# Altium integrated library Capacitor - Tantalum Polymer.IntLib: 74 symbols
Pins are listed as number, name and electrical type; pins without a type are passive.

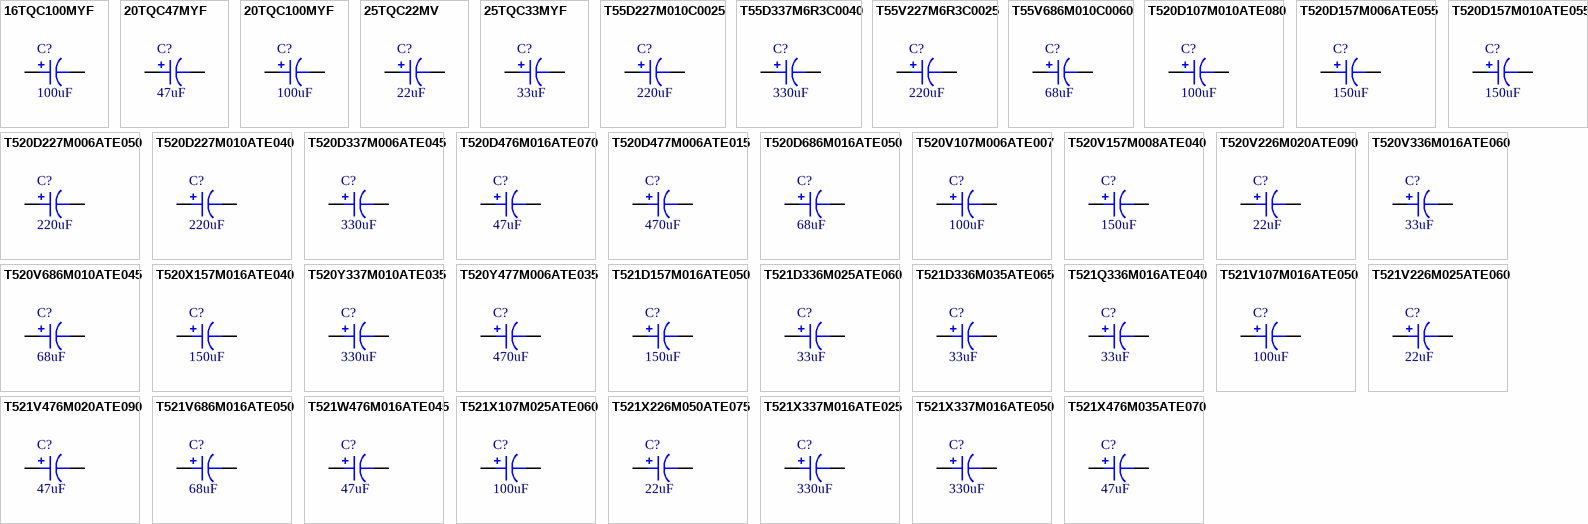
[diagram p0: symbols 16TQC100MYF to T521X476M035ATE070]

## 16TQC100MYF
designator C?, comment 100uF
CAP TANT POLY 100UF 16V 2917; Part Number: 16TQC100MYF; Manufacturer: Panasonic Electronic Components; TemperatureRange: -55C ~ 105C; Tolerance: 20%; Type: General Purpose; Value: 100uF; PartId: 7008; Supplier 1: Digi-Key; Supplier Part Number 1: P16237TR-ND; ComponentLink1Description: Datasheet; ComponentLink1URL: http://industrial.panasonic.com/www-cgi/jvcr13pz.cgi?E+CI+4+AAA8014+16TQC100MYF+8+WW; ComponentLink2Description: Digi-Key listing; ComponentLink2URL: http://digikey.com/product-detail/en/16TQC100MYF/P16237TR-ND/4146609; Voltage: 16V; Price: 1.9565; Device Package: 2917 (7343 Metric)
footprint CAP POL 2917/7343
pins: 1, 2

## 20TQC47MYF
designator C?, comment 47uF
CAP TANT POLY 47UF 20V 2917; Part Number: 20TQC47MYF; Manufacturer: Panasonic Electronic Components; TemperatureRange: -55C ~ 105C; Tolerance: 20%; Type: General Purpose; Value: 47uF; PartId: 7009; Supplier 1: Digi-Key; Supplier Part Number 1: P16249TR-ND; ComponentLink1Description: Datasheet; ComponentLink1URL: http://industrial.panasonic.com/www-cgi/jvcr13pz.cgi?E+CI+4+AAA8014+20TQC47MYF+8+WW; ComponentLink2Description: Digi-Key listing; ComponentLink2URL: http://digikey.com/product-detail/en/20TQC47MYF/P16249TR-ND/4146621; Voltage: 20V; Price: 2.0624; Device Package: 2917 (7343 Metric)
footprint CAP POL 2917/7343
pins: 1, 2

## 20TQC100MYF
designator C?, comment 100uF
CAP TANT POLY 100UF 20V 2917; Part Number: 20TQC100MYF; Manufacturer: Panasonic Electronic Components; TemperatureRange: -55C ~ 105C; Tolerance: 20%; Type: General Purpose; Value: 100uF; PartId: 7006; Supplier 1: Digi-Key; Supplier Part Number 1: P16503TR-ND; ComponentLink1Description: Datasheet; ComponentLink1URL: http://industrial.panasonic.com/www-cgi/jvcr13pz.cgi?E+CI+4+AAA8014+20TQC100MYF+8+WW; ComponentLink2Description: Digi-Key listing; ComponentLink2URL: http://digikey.com/product-detail/en/20TQC100MYF/P16503TR-ND/4204835; Voltage: 20V; Price: 1.9047; Device Package: 2917 (7343 Metric)
footprint CAP POL 2917/7343
pins: 1, 2

## 25TQC22MV
designator C?, comment 22uF
CAP TANT POLY 22UF 25V 2917; Part Number: 25TQC22MV; Manufacturer: Panasonic Electronic Components; TemperatureRange: -55C ~ 105C; Tolerance: 20%; Type: General Purpose; Value: 22uF; PartId: 7004; Supplier 1: Digi-Key; Supplier Part Number 1: P16517TR-ND; ComponentLink1Description: Datasheet; ComponentLink1URL: http://industrial.panasonic.com/www-cgi/jvcr13pz.cgi?E+CI+4+AAA8014+25TQC22MV+8+WW; ComponentLink2Description: Digi-Key listing; ComponentLink2URL: http://digikey.com/product-detail/en/25TQC22MV/P16517TR-ND/4204849; Voltage: 25V; Price: 1.2249; Device Package: 2917 (7343 Metric)
footprint CAP POL 2917/7343
pins: 1, 2

## 25TQC33MYF
designator C?, comment 33uF
CAP TANT POLY 33UF 25V 2917; Part Number: 25TQC33MYF; Manufacturer: Panasonic Electronic Components; TemperatureRange: -55C ~ 105C; Tolerance: 20%; Type: General Purpose; Value: 33uF; PartId: 7005; Supplier 1: Digi-Key; Supplier Part Number 1: P16226TR-ND; ComponentLink1Description: Datasheet; ComponentLink1URL: http://industrial.panasonic.com/www-cgi/jvcr13pz.cgi?E+CI+4+AAA8014+25TQC33MYF+8+WW; ComponentLink2Description: Digi-Key listing; ComponentLink2URL: http://digikey.com/product-detail/en/25TQC33MYF/P16226TR-ND/4146598; Voltage: 25V; Price: 1.3066; Device Package: 2917 (7343 Metric)
footprint CAP POL 2917/7343
pins: 1, 2

## T55D227M010C0025
designator C?, comment 220uF
CAP TANT POLY 220UF 10V SMD; Part Number: T55D227M010C0025; Manufacturer: Vishay Sprague; TemperatureRange: -55C ~ 105C; Tolerance: 20%; Type: General Purpose; Value: 220uF; PartId: 7045; Supplier 1: Digi-Key; Supplier Part Number 1: 718-2103-2-ND; ComponentLink1Description: Datasheet; ComponentLink1URL: http://www.vishay.com/docs/40174/t55.pdf; ComponentLink2Description: Digi-Key listing; ComponentLink2URL: http://digikey.com/product-detail/en/T55D227M010C0025/718-2103-2-ND/5287331; Voltage: 10V; Price: 1.0979; Device Package: 2917 (7343 Metric)
footprint CAP POL 2917/7343
pins: 1, 2

## T55D337M6R3C0040
designator C?, comment 330uF
CAP TANT POLY 330UF 6.3V SMD; Part Number: T55D337M6R3C0040; Manufacturer: Vishay Sprague; TemperatureRange: -55C ~ 105C; Tolerance: 20%; Type: General Purpose; Value: 330uF; PartId: 7044; Supplier 1: Digi-Key; Supplier Part Number 1: 718-2097-2-ND; ComponentLink1Description: Datasheet; ComponentLink1URL: http://www.vishay.com/docs/40174/t55.pdf; ComponentLink2Description: Digi-Key listing; ComponentLink2URL: http://digikey.com/product-detail/en/T55D337M6R3C0040/718-2097-2-ND/5287325; Voltage: 6.3V; Price: 1.037; Device Package: 2917 (7343 Metric)
footprint CAP POL 2917/7343
pins: 1, 2

## T55V227M6R3C0025
designator C?, comment 220uF
CAP TANT POLY 220UF 6.3V SMD; Part Number: T55V227M6R3C0025; Manufacturer: Vishay Sprague; TemperatureRange: -55C ~ 105C; Tolerance: 20%; Type: General Purpose; Value: 220uF; PartId: 7049; Supplier 1: Digi-Key; Supplier Part Number 1: 718-2105-2-ND; ComponentLink1Description: Datasheet; ComponentLink1URL: http://www.vishay.com/docs/40174/t55.pdf; ComponentLink2Description: Digi-Key listing; ComponentLink2URL: http://digikey.com/product-detail/en/T55V227M6R3C0025/718-2105-2-ND/5287333; Voltage: 6.3V; Price: 1.6788; Device Package: 2917 (7343 Metric)
footprint CAP POL 2917/7343
pins: 1, 2

## T55V686M010C0060
designator C?, comment 68uF
CAP TANT POLY 68UF 10V SMD; Part Number: T55V686M010C0060; Manufacturer: Vishay Sprague; TemperatureRange: -55C ~ 105C; Tolerance: 20%; Type: General Purpose; Value: 68uF; PartId: 7048; Supplier 1: Digi-Key; Supplier Part Number 1: 718-2106-2-ND; ComponentLink1Description: Datasheet; ComponentLink1URL: http://www.vishay.com/docs/40174/t55.pdf; ComponentLink2Description: Digi-Key listing; ComponentLink2URL: http://digikey.com/product-detail/en/T55V686M010C0060/718-2106-2-ND/5287334; Voltage: 10V; Price: 1.6913; Device Package: 2917 (7343 Metric)
footprint CAP POL 2917/7343
pins: 1, 2

## T520D107M010ATE080
designator C?, comment 100uF
CAP TANT POLY 100UF 10V 2917; Part Number: T520D107M010ATE080; Manufacturer: Kemet; TemperatureRange: -55C ~ 105C; Tolerance: 20%; Type: General Purpose; Value: 100uF; PartId: 6976; Supplier 1: Digi-Key; Supplier Part Number 1: 399-4030-2-ND; ComponentLink1Description: Datasheet; ComponentLink1URL: http://www.kemet.com/Lists/ProductCatalog/Attachments/421/KEM_T2015_T520.pdf; ComponentLink2Description: Digi-Key listing; ComponentLink2URL: http://digikey.com/product-detail/en/T520D107M010ATE080/399-4030-2-ND/818891; Voltage: 10V; Price: 0.7937; Device Package: 2917 (7343 Metric)
footprint CAP POL 2917/7343
pins: 1, 2

## T520D157M006ATE055
designator C?, comment 150uF
CAP TANT POLY 150UF 6.3V 2917; Part Number: T520D157M006ATE055; Manufacturer: Kemet; TemperatureRange: -55C ~ 105C; Tolerance: 20%; Type: General Purpose; Value: 150uF; PartId: 6984; Supplier 1: Digi-Key; Supplier Part Number 1: 399-4035-2-ND; ComponentLink1Description: Datasheet; ComponentLink1URL: http://www.kemet.com/Lists/ProductCatalog/Attachments/421/KEM_T2015_T520.pdf; ComponentLink2Description: Digi-Key listing; ComponentLink2URL: http://digikey.com/product-detail/en/T520D157M006ATE055/399-4035-2-ND/818896; Voltage: 6.3V; Price: 1.0583; Device Package: 2917 (7343 Metric)
footprint CAP POL 2917/7343
pins: 1, 2

## T520D157M010ATE055
designator C?, comment 150uF
CAP TANT POLY 150UF 10V 2917; Part Number: T520D157M010ATE055; Manufacturer: Kemet; TemperatureRange: -55C ~ 105C; Tolerance: 20%; Type: General Purpose; Value: 150uF; PartId: 6979; Supplier 1: Digi-Key; Supplier Part Number 1: 399-4040-2-ND; ComponentLink1Description: Datasheet; ComponentLink1URL: http://www.kemet.com/Lists/ProductCatalog/Attachments/421/KEM_T2015_T520.pdf; ComponentLink2Description: Digi-Key listing; ComponentLink2URL: http://digikey.com/product-detail/en/T520D157M010ATE055/399-4040-2-ND/818901; Voltage: 10V; Price: 0.89; Device Package: 2917 (7343 Metric)
footprint CAP POL 2917/7343
pins: 1, 2

## T520D227M006ATE050
designator C?, comment 220uF
CAP TANT POLY 220UF 6.3V 2917; Part Number: T520D227M006ATE050; Manufacturer: Kemet; TemperatureRange: -55C ~ 105C; Tolerance: 20%; Type: General Purpose; Value: 220uF; PartId: 6977; Supplier 1: Digi-Key; Supplier Part Number 1: 399-4044-2-ND; ComponentLink1Description: Datasheet; ComponentLink1URL: http://www.kemet.com/Lists/ProductCatalog/Attachments/421/KEM_T2015_T520.pdf; ComponentLink2Description: Digi-Key listing; ComponentLink2URL: http://digikey.com/product-detail/en/T520D227M006ATE050/399-4044-2-ND/818905; Voltage: 6.3V; Price: 0.8047; Device Package: 2917 (7343 Metric)
footprint CAP POL 2917/7343
pins: 1, 2

## T520D227M010ATE040
designator C?, comment 220uF
CAP TANT POLY 220UF 10V 2917; Part Number: T520D227M010ATE040; Manufacturer: Kemet; TemperatureRange: -55C ~ 105C; Tolerance: 20%; Type: General Purpose; Value: 220uF; PartId: 6986; Supplier 1: Digi-Key; Supplier Part Number 1: 399-4047-2-ND; ComponentLink1Description: Datasheet; ComponentLink1URL: http://www.kemet.com/Lists/ProductCatalog/Attachments/421/KEM_T2015_T520.pdf; ComponentLink2Description: Digi-Key listing; ComponentLink2URL: http://digikey.com/product-detail/en/T520D227M010ATE040/399-4047-2-ND/818908; Voltage: 10V; Price: 1.2058; Device Package: 2917 (7343 Metric)
footprint CAP POL 2917/7343
pins: 1, 2

## T520D337M006ATE045
designator C?, comment 330uF
CAP TANT POLY 330UF 6.3V 2917; Part Number: T520D337M006ATE045; Manufacturer: Kemet; TemperatureRange: -55C ~ 105C; Tolerance: 20%; Type: General Purpose; Value: 330uF; PartId: 6978; Supplier 1: Digi-Key; Supplier Part Number 1: 399-4055-2-ND; ComponentLink1Description: Datasheet; ComponentLink1URL: http://www.kemet.com/Lists/ProductCatalog/Attachments/421/KEM_T2015_T520.pdf; ComponentLink2Description: Digi-Key listing; ComponentLink2URL: http://digikey.com/product-detail/en/T520D337M006ATE045/399-4055-2-ND/818916; Voltage: 6.3V; Price: 0.8705; Device Package: 2917 (7343 Metric)
footprint CAP POL 2917/7343
pins: 1, 2

## T520D476M016ATE070
designator C?, comment 47uF
CAP TANT POLY 47UF 16V 2917; Part Number: T520D476M016ATE070; Manufacturer: Kemet; TemperatureRange: -55C ~ 105C; Tolerance: 20%; Type: General Purpose; Value: 47uF; PartId: 6988; Supplier 1: Digi-Key; Supplier Part Number 1: 399-4056-2-ND; ComponentLink1Description: Datasheet; ComponentLink1URL: http://www.kemet.com/Lists/ProductCatalog/Attachments/421/KEM_T2015_T520.pdf; ComponentLink2Description: Digi-Key listing; ComponentLink2URL: http://digikey.com/product-detail/en/T520D476M016ATE070/399-4056-2-ND/818917; Voltage: 16V; Price: 1.4917; Device Package: 2917 (7343 Metric)
footprint CAP POL 2917/7343
pins: 1, 2

## T520D477M006ATE015
designator C?, comment 470uF
CAP TANT 470UF 6.3V 20% SMD; Part Number: T520D477M006ATE015; Manufacturer: Kemet; TemperatureRange: -55C ~ 105C; Type: General Purpose; Value: 470uF; PartId: 7043; Supplier 1: Digi-Key; Supplier Part Number 1: 399-11711-2-ND; ComponentLink1Description: Datasheet; ComponentLink1URL: http://www.kemet.com/Lists/ProductCatalog/Attachments/421/KEM_T2015_T520.pdf; ComponentLink2Description: Digi-Key listing; ComponentLink2URL: http://digikey.com/product-detail/en/T520D477M006ATE015/399-11711-2-ND/5131693; Tolerance: 20%; Voltage: 6.3V; Price: 2.0798; Device Package: 2917 (7343 Metric)
footprint CAP POL 2917/7343
pins: 1, 2

## T520D686M016ATE050
designator C?, comment 68uF
CAP TANT POLY 68UF 16V 2917; Part Number: T520D686M016ATE050; Manufacturer: Kemet; TemperatureRange: -55C ~ 105C; Tolerance: 20%; Type: General Purpose; Value: 68uF; PartId: 6989; Supplier 1: Digi-Key; Supplier Part Number 1: 399-5151-2-ND; ComponentLink1Description: Datasheet; ComponentLink1URL: http://www.kemet.com/Lists/ProductCatalog/Attachments/421/KEM_T2015_T520.pdf; ComponentLink2Description: Digi-Key listing; ComponentLink2URL: http://digikey.com/product-detail/en/T520D686M016ATE050/399-5151-2-ND/1681766; Voltage: 16V; Price: 1.5215; Device Package: 2917 (7343 Metric)
footprint CAP POL 2917/7343
pins: 1, 2

## T520V107M006ATE007
designator C?, comment 100uF
CAP TANT POLY 100UF 6.3V 2917; Part Number: T520V107M006ATE007; Manufacturer: Kemet; TemperatureRange: -55C ~ 105C; Tolerance: 20%; Type: General Purpose; Value: 100uF; PartId: 6993; Supplier 1: Digi-Key; Supplier Part Number 1: 399-4720-2-ND; ComponentLink1Description: Datasheet; ComponentLink1URL: http://www.kemet.com/Lists/ProductCatalog/Attachments/421/KEM_T2015_T520.pdf; ComponentLink2Description: Digi-Key listing; ComponentLink2URL: http://digikey.com/product-detail/en/T520V107M006ATE007/399-4720-2-ND/1001019; Voltage: 6.3V; Price: 1.8072; Device Package: 2917 (7343 Metric)
footprint CAP POL 2917/7343
pins: 1, 2

## T520V157M008ATE040
designator C?, comment 150uF
CAP TANT POLY 150UF 8V 2917; Part Number: T520V157M008ATE040; Manufacturer: Kemet; TemperatureRange: -55C ~ 105C; Tolerance: 20%; Type: General Purpose; Value: 150uF; PartId: 6991; Supplier 1: Digi-Key; Supplier Part Number 1: 399-10347-2-ND; ComponentLink1Description: Datasheet; ComponentLink1URL: http://www.kemet.com/Lists/ProductCatalog/Attachments/421/KEM_T2015_T520.pdf; ComponentLink2Description: Digi-Key listing; ComponentLink2URL: http://digikey.com/product-detail/en/T520V157M008ATE040/399-10347-2-ND/3760622; Voltage: 8V; Price: 1.7068; Device Package: 2917 (7343 Metric)
footprint CAP POL 2917/7343
pins: 1, 2

## T520V226M020ATE090
designator C?, comment 22uF
CAP TANT POLY 22UF 20V 2917; Part Number: T520V226M020ATE090; Manufacturer: Kemet; TemperatureRange: -55C ~ 105C; Tolerance: 20%; Type: General Purpose; Value: 22uF; PartId: 6992; Supplier 1: Digi-Key; Supplier Part Number 1: 399-10350-2-ND; ComponentLink1Description: Datasheet; ComponentLink1URL: http://www.kemet.com/Lists/ProductCatalog/Attachments/421/KEM_T2015_T520.pdf; ComponentLink2Description: Digi-Key listing; ComponentLink2URL: http://digikey.com/product-detail/en/T520V226M020ATE090/399-10350-2-ND/3760625; Voltage: 20V; Price: 1.8072; Device Package: 2917 (7343 Metric)
footprint CAP POL 2917/7343
pins: 1, 2

## T520V336M016ATE060
designator C?, comment 33uF
CAP TANT POLY 33UF 16V 2917; Part Number: T520V336M016ATE060; Manufacturer: Kemet; TemperatureRange: -55C ~ 105C; Tolerance: 20%; Type: General Purpose; Value: 33uF; PartId: 6985; Supplier 1: Digi-Key; Supplier Part Number 1: 399-4094-2-ND; ComponentLink1Description: Datasheet; ComponentLink1URL: http://www.kemet.com/Lists/ProductCatalog/Attachments/421/KEM_T2015_T520.pdf; ComponentLink2Description: Digi-Key listing; ComponentLink2URL: http://digikey.com/product-detail/en/T520V336M016ATE060/399-4094-2-ND/818955; Voltage: 16V; Price: 1.1044; Device Package: 2917 (7343 Metric)
footprint CAP POL 2917/7343
pins: 1, 2

## T520V686M010ATE045
designator C?, comment 68uF
CAP TANT POLY 68UF 10V 2917; Part Number: T520V686M010ATE045; Manufacturer: Kemet; TemperatureRange: -55C ~ 105C; Tolerance: 20%; Type: General Purpose; Value: 68uF; PartId: 6990; Supplier 1: Digi-Key; Supplier Part Number 1: 399-4111-2-ND; ComponentLink1Description: Datasheet; ComponentLink1URL: http://www.kemet.com/Lists/ProductCatalog/Attachments/421/KEM_T2015_T520.pdf; ComponentLink2Description: Digi-Key listing; ComponentLink2URL: http://digikey.com/product-detail/en/T520V686M010ATE045/399-4111-2-ND/818972; Voltage: 10V; Price: 1.6064; Device Package: 2917 (7343 Metric)
footprint CAP POL 2917/7343
pins: 1, 2

## T520X157M016ATE040
designator C?, comment 150uF
CAP TANT POLY 150UF 16V 2917; Part Number: T520X157M016ATE040; Manufacturer: Kemet; TemperatureRange: -55C ~ 105C; Tolerance: 20%; Type: General Purpose; Value: 150uF; PartId: 7002; Supplier 1: Digi-Key; Supplier Part Number 1: 399-10358-2-ND; ComponentLink1Description: Datasheet; ComponentLink1URL: http://www.kemet.com/Lists/ProductCatalog/Attachments/421/KEM_T2015_T520.pdf; ComponentLink2Description: Digi-Key listing; ComponentLink2URL: http://digikey.com/product-detail/en/T520X157M016ATE040/399-10358-2-ND/3760633; Voltage: 16V; Price: 5.0181; Device Package: 2917 (7343 Metric)
footprint CAP POL 2917/7343
pins: 1, 2

## T520Y337M010ATE035
designator C?, comment 330uF
CAP TANT POLY 330UF 10V 2917; Part Number: T520Y337M010ATE035; Manufacturer: Kemet; TemperatureRange: -55C ~ 105C; Tolerance: 20%; Type: General Purpose; Value: 330uF; PartId: 6996; Supplier 1: Digi-Key; Supplier Part Number 1: 399-10363-2-ND; ComponentLink1Description: Datasheet; ComponentLink1URL: http://www.kemet.com/Lists/ProductCatalog/Attachments/421/KEM_T2015_T520.pdf; ComponentLink2Description: Digi-Key listing; ComponentLink2URL: http://digikey.com/product-detail/en/T520Y337M010ATE035/399-10363-2-ND/3760638; Voltage: 10V; Price: 2.3335; Device Package: 2917 (7343 Metric)
footprint CAP POL 2917/7343
pins: 1, 2

## T520Y477M006ATE035
designator C?, comment 470uF
CAP TANT POLY 470UF 6.3V 2917; Part Number: T520Y477M006ATE035; Manufacturer: Kemet; TemperatureRange: -55C ~ 105C; Tolerance: 20%; Type: General Purpose; Value: 470uF; PartId: 6994; Supplier 1: Digi-Key; Supplier Part Number 1: 399-5626-2-ND; ComponentLink1Description: Datasheet; ComponentLink1URL: http://www.kemet.com/Lists/ProductCatalog/Attachments/421/KEM_T2015_T520.pdf; ComponentLink2Description: Digi-Key listing; ComponentLink2URL: http://digikey.com/product-detail/en/T520Y477M006ATE035/399-5626-2-ND/2057924; Voltage: 6.3V; Price: 1.9507; Device Package: 2917 (7343 Metric)
footprint CAP POL 2917/7343
pins: 1, 2

## T521D157M016ATE050
designator C?, comment 150uF
CAP TANTALUM 150UF 16V 2917; Part Number: T521D157M016ATE050; Manufacturer: Kemet; TemperatureRange: -55C ~ 105C; Tolerance: 20%; Type: General Purpose; Value: 150uF; PartId: 7032; Supplier 1: Digi-Key; Supplier Part Number 1: 399-11715-2-ND; ComponentLink1Description: Datasheet; ComponentLink1URL: http://www.kemet.com/Lists/ProductCatalog/Attachments/252/KEM_T2016_T521.pdf; ComponentLink2Description: Digi-Key listing; ComponentLink2URL: http://digikey.com/product-detail/en/T521D157M016ATE050/399-11715-2-ND/5131697; Voltage: 16V; Price: 1.7212; Device Package: 2917 (7343 Metric)
footprint CAP POL 2917/7343
pins: 1, 2

## T521D336M025ATE060
designator C?, comment 33uF
CAP TANTALUM 33UF 25V 2917; Part Number: T521D336M025ATE060; Manufacturer: Kemet; TemperatureRange: -55C ~ 105C; Tolerance: 20%; Type: General Purpose; Value: 33uF; PartId: 6987; Supplier 1: Digi-Key; Supplier Part Number 1: 399-5806-2-ND; ComponentLink1Description: Datasheet; ComponentLink1URL: http://www.kemet.com/Lists/ProductCatalog/Attachments/252/KEM_T2016_T521.pdf; ComponentLink2Description: Digi-Key listing; ComponentLink2URL: http://digikey.com/product-detail/en/T521D336M025ATE060/399-5806-2-ND/2335828; Voltage: 25V; Price: 1.2874; Device Package: 2917 (7343 Metric)
footprint CAP POL 2917/7343
pins: 1, 2

## T521D336M035ATE065
designator C?, comment 33uF
CAP TANTALUM 33UF 35V 2917; Part Number: T521D336M035ATE065; Manufacturer: Kemet; TemperatureRange: -55C ~ 125C; Tolerance: 20%; Type: General Purpose; Value: 33uF; PartId: 6995; Supplier 1: Digi-Key; Supplier Part Number 1: 399-9786-2-ND; ComponentLink1Description: Datasheet; ComponentLink1URL: http://www.kemet.com/Lists/ProductCatalog/Attachments/252/KEM_T2016_T521.pdf; ComponentLink2Description: Digi-Key listing; ComponentLink2URL: http://digikey.com/product-detail/en/T521D336M035ATE065/399-9786-2-ND/3724732; Voltage: 35V; Price: 2.1802; Device Package: 2917 (7343 Metric)
footprint CAP POL 2917/7343
pins: 1, 2

## T521Q336M016ATE040
designator C?, comment 33uF
CAP TANTALUM 33UF 16V 2917; Part Number: T521Q336M016ATE040; Manufacturer: Kemet; TemperatureRange: -55C ~ 105C; Tolerance: 20%; Type: General Purpose; Value: 33uF; PartId: 7041; Supplier 1: Digi-Key; Supplier Part Number 1: 399-11716-2-ND; ComponentLink1Description: Datasheet; ComponentLink1URL: http://www.kemet.com/Lists/ProductCatalog/Attachments/252/KEM_T2016_T521.pdf; ComponentLink2Description: Digi-Key listing; ComponentLink2URL: http://digikey.com/product-detail/en/T521Q336M016ATE040/399-11716-2-ND/5131698; Voltage: 16V; Price: 1.1446; Device Package: 2917 (7343 Metric)
footprint CAP POL 2917/7343
pins: 1, 2

## T521V107M016ATE050
designator C?, comment 100uF
CAP TANTALUM 100UF 16V 2917; Part Number: T521V107M016ATE050; Manufacturer: Kemet; TemperatureRange: -55C ~ 125C; Tolerance: 20%; Type: General Purpose; Value: 100uF; PartId: 6980; Supplier 1: Digi-Key; Supplier Part Number 1: 399-9787-2-ND; ComponentLink1Description: Datasheet; ComponentLink1URL: http://www.kemet.com/Lists/ProductCatalog/Attachments/252/KEM_T2016_T521.pdf; ComponentLink2Description: Digi-Key listing; ComponentLink2URL: http://digikey.com/product-detail/en/T521V107M016ATE050/399-9787-2-ND/3724723; Voltage: 16V; Price: 1.004; Device Package: 2917 (7343 Metric)
footprint CAP POL 2917/7343
pins: 1, 2

## T521V226M025ATE060
designator C?, comment 22uF
CAP TANTALUM 22UF 25V 2917; Part Number: T521V226M025ATE060; Manufacturer: Kemet; TemperatureRange: -55C ~ 105C; Tolerance: 20%; Type: General Purpose; Value: 22uF; PartId: 6983; Supplier 1: Digi-Key; Supplier Part Number 1: 399-5805-2-ND; ComponentLink1Description: Datasheet; ComponentLink1URL: http://www.kemet.com/Lists/ProductCatalog/Attachments/252/KEM_T2016_T521.pdf; ComponentLink2Description: Digi-Key listing; ComponentLink2URL: http://digikey.com/product-detail/en/T521V226M025ATE060/399-5805-2-ND/2335827; Voltage: 25V; Price: 1.0492; Device Package: 2917 (7343 Metric)
footprint CAP POL 2917/7343
pins: 1, 2

## T521V476M020ATE090
designator C?, comment 47uF
CAP TANTALUM 47UF 20V 2917; Part Number: T521V476M020ATE090; Manufacturer: Kemet; TemperatureRange: -55C ~ 125C; Tolerance: 20%; Type: General Purpose; Value: 47uF; PartId: 6981; Supplier 1: Digi-Key; Supplier Part Number 1: 399-5757-2-ND; ComponentLink1Description: Datasheet; ComponentLink1URL: http://www.kemet.com/Lists/ProductCatalog/Attachments/252/KEM_T2016_T521.pdf; ComponentLink2Description: Digi-Key listing; ComponentLink2URL: http://digikey.com/product-detail/en/T521V476M020ATE090/399-5757-2-ND/2230997; Voltage: 20V; Price: 1.004; Device Package: 2917 (7343 Metric)
footprint CAP POL 2917/7343
pins: 1, 2

## T521V686M016ATE050
designator C?, comment 68uF
CAP TANTALUM 68UF 16V 2917; Part Number: T521V686M016ATE050; Manufacturer: Kemet; TemperatureRange: -55C ~ 105C; Tolerance: 20%; Type: General Purpose; Value: 68uF; PartId: 6982; Supplier 1: Digi-Key; Supplier Part Number 1: 399-5935-2-ND; ComponentLink1Description: Datasheet; ComponentLink1URL: http://www.kemet.com/Lists/ProductCatalog/Attachments/252/KEM_T2016_T521.pdf; ComponentLink2Description: Digi-Key listing; ComponentLink2URL: http://digikey.com/product-detail/en/T521V686M016ATE050/399-5935-2-ND/2640598; Voltage: 16V; Price: 1.004; Device Package: 2917 (7343 Metric)
footprint CAP POL 2917/7343
pins: 1, 2

## T521W476M016ATE045
designator C?, comment 47uF
CAP TANTALUM 47UF 16V 2917; Part Number: T521W476M016ATE045; Manufacturer: Kemet; TemperatureRange: -55C ~ 105C; Tolerance: 20%; Type: General Purpose; Value: 47uF; PartId: 7042; Supplier 1: Digi-Key; Supplier Part Number 1: 399-11719-2-ND; ComponentLink1Description: Datasheet; ComponentLink1URL: http://www.kemet.com/Lists/ProductCatalog/Attachments/252/KEM_T2016_T521.pdf; ComponentLink2Description: Digi-Key listing; ComponentLink2URL: http://digikey.com/product-detail/en/T521W476M016ATE045/399-11719-2-ND/5131701; Voltage: 16V; Price: 1.2048; Device Package: 2917 (7343 Metric)
footprint CAP POL 2917/7343
pins: 1, 2

## T521X107M025ATE060
designator C?, comment 100uF
CAP TANTALUM 100UF 25V 2917; Part Number: T521X107M025ATE060; Manufacturer: Kemet; TemperatureRange: -55C ~ 105C; Tolerance: 20%; Type: General Purpose; Value: 100uF; PartId: 6998; Supplier 1: Digi-Key; Supplier Part Number 1: 399-9788-2-ND; ComponentLink1Description: Datasheet; ComponentLink1URL: http://www.kemet.com/Lists/ProductCatalog/Attachments/252/KEM_T2016_T521.pdf; ComponentLink2Description: Digi-Key listing; ComponentLink2URL: http://digikey.com/product-detail/en/T521X107M025ATE060/399-9788-2-ND/3724724; Voltage: 25V; Price: 2.6676; Device Package: 2917 (7343 Metric)
footprint CAP POL 2917/7343
pins: 1, 2

## T521X226M050ATE075
designator C?, comment 22uF
CAP TANTALUM 22UF 50V 2917; Part Number: T521X226M050ATE075; Manufacturer: Kemet; TemperatureRange: -55C ~ 125C; Tolerance: 20%; Type: General Purpose; Value: 22uF; PartId: 7010; Supplier 1: Digi-Key; Supplier Part Number 1: 399-11720-2-ND; ComponentLink1Description: Datasheet; ComponentLink1URL: http://www.kemet.com/Lists/ProductCatalog/Attachments/252/KEM_T2016_T521.pdf; ComponentLink2Description: Digi-Key listing; ComponentLink2URL: http://digikey.com/product-detail/en/T521X226M050ATE075/399-11720-2-ND/5131702; Voltage: 50V; Price: 2.4957; Device Package: 2917 (7343 Metric)
footprint CAP POL 2917/7343
pins: 1, 2

## T521X337M016ATE025
designator C?, comment 330uF
CAP TANTALUM 330UF 16V 2917; Part Number: T521X337M016ATE025; Manufacturer: Kemet; TemperatureRange: -55C ~ 125C; Tolerance: 20%; Type: General Purpose; Value: 330uF; PartId: 7000; Supplier 1: Digi-Key; Supplier Part Number 1: 399-9790-2-ND; ComponentLink1Description: Datasheet; ComponentLink1URL: http://www.kemet.com/Lists/ProductCatalog/Attachments/252/KEM_T2016_T521.pdf; ComponentLink2Description: Digi-Key listing; ComponentLink2URL: http://digikey.com/product-detail/en/T521X337M016ATE025/399-9790-2-ND/3724726; Voltage: 16V; Price: 3.8153; Device Package: 2917 (7343 Metric)
footprint CAP POL 2917/7343
pins: 1, 2

## T521X337M016ATE050
designator C?, comment 330uF
CAP TANT POLY 330UF 16V 2917; Part Number: T521X337M016ATE050; Manufacturer: Kemet; TemperatureRange: -55C ~ 125C; Tolerance: 20%; Type: General Purpose; Value: 330uF; PartId: 6999; Supplier 1: Digi-Key; Supplier Part Number 1: 399-10365-2-ND; ComponentLink1Description: Datasheet; ComponentLink1URL: http://www.kemet.com/Lists/ProductCatalog/Attachments/252/KEM_T2016_T521.pdf; ComponentLink2Description: Digi-Key listing; ComponentLink2URL: http://digikey.com/product-detail/en/T521X337M016ATE050/399-10365-2-ND/3760640; Voltage: 16V; Price: 3.7892; Device Package: 2917 (7343 Metric)
footprint CAP POL 2917/7343
pins: 1, 2

## T521X476M035ATE070
designator C?, comment 47uF
CAP TANTALUM 47UF 35V 2917; Part Number: T521X476M035ATE070; Manufacturer: Kemet; TemperatureRange: -55C ~ 125C; Tolerance: 20%; Type: General Purpose; Value: 47uF; PartId: 6997; Supplier 1: Digi-Key; Supplier Part Number 1: 399-5938-2-ND; ComponentLink1Description: Datasheet; ComponentLink1URL: http://www.kemet.com/Lists/ProductCatalog/Attachments/252/KEM_T2016_T521.pdf; ComponentLink2Description: Digi-Key listing; ComponentLink2URL: http://digikey.com/product-detail/en/T521X476M035ATE070/399-5938-2-ND/2640601; Voltage: 35V; Price: 2.5997; Device Package: 2917 (7343 Metric)
footprint CAP POL 2917/7343
pins: 1, 2

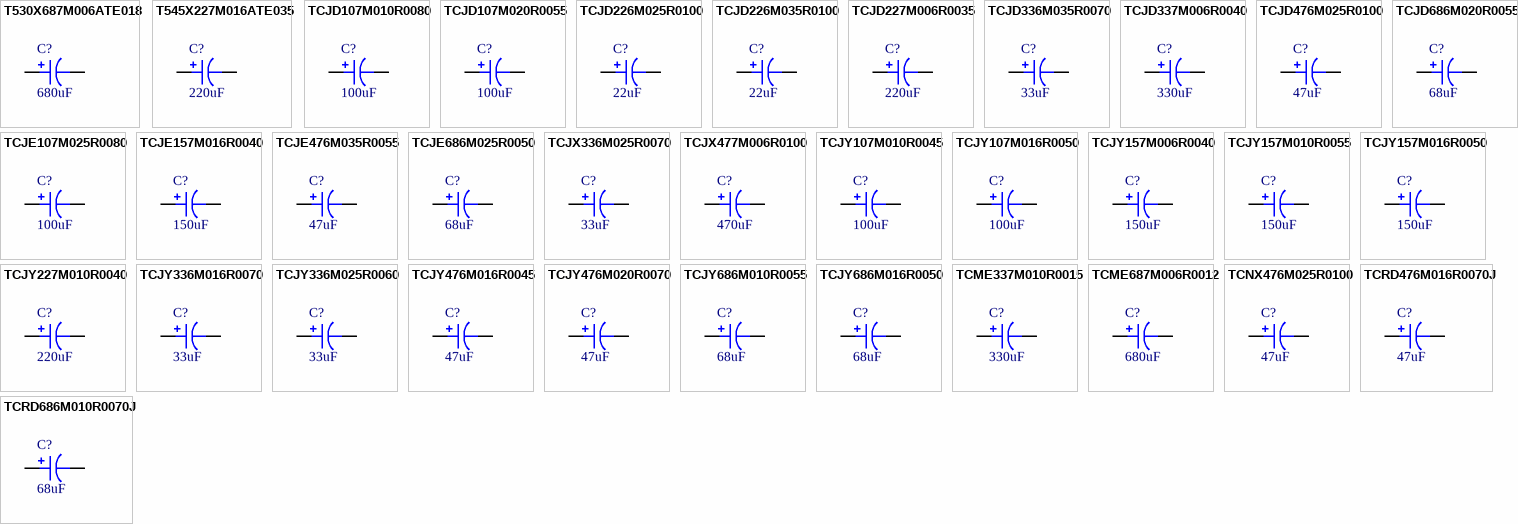
[diagram p1: symbols T530X687M006ATE018 to TCRD686M010R0070J]

## T530X687M006ATE018
designator C?, comment 680uF
CAP TANT POLY 680UF 6.3V 2917; Part Number: T530X687M006ATE018; Manufacturer: Kemet; TemperatureRange: -55C ~ 125C; Tolerance: 20%; Type: General Purpose; Value: 680uF; PartId: 7001; Supplier 1: Digi-Key; Supplier Part Number 1: 399-5408-2-ND; ComponentLink1Description: Datasheet; ComponentLink1URL: http://www.kemet.com/docfinder?Partnumber=T530X687M006ATE018; ComponentLink2Description: Digi-Key listing; ComponentLink2URL: http://digikey.com/product-detail/en/T530X687M006ATE018/399-5408-2-ND/1885476; Voltage: 6.3V; Price: 4.7189; Device Package: 2917 (7343 Metric)
footprint CAP POL 2917/7343
pins: 1, 2

## T545X227M016ATE035
designator C?, comment 220uF
CAP TANT POLY 220UF 16V 2917; Part Number: T545X227M016ATE035; Manufacturer: Kemet; TemperatureRange: -55C ~ 125C; Tolerance: 20%; Type: General Purpose; Value: 220uF; PartId: 7003; Supplier 1: Digi-Key; Supplier Part Number 1: 399-8858-2-ND; ComponentLink1Description: Datasheet; ComponentLink1URL: http://www.kemet.com/Lists/ProductCatalog/Attachments/117/KEM_T2060_T545.pdf; ComponentLink2Description: Digi-Key listing; ComponentLink2URL: http://digikey.com/product-detail/en/T545X227M016ATE035/399-8858-2-ND/3522147; Voltage: 16V; Price: 6.8395; Device Package: 2917 (7343 Metric)
footprint CAP POL 2917/7343
pins: 1, 2

## TCJD107M010R0080
designator C?, comment 100uF
CAP TANT POLY 100UF 20% 10V 2917; Part Number: TCJD107M010R0080; Manufacturer: AVX Corporation; TemperatureRange: -55C ~ 105C; Type: General Purpose; Value: 100uF; PartId: 7046; Supplier 1: Digi-Key; Supplier Part Number 1: 478-9572-2-ND; ComponentLink1Description: Datasheet; ComponentLink1URL: http://datasheets.avx.com/TCJ.pdf; ComponentLink2Description: Digi-Key listing; ComponentLink2URL: http://digikey.com/product-detail/en/TCJD107M010R0080/478-9572-2-ND/5323776; Tolerance: 20%; Voltage: 10V; Price: 1.2622; Device Package: 2917 (7343 Metric)
footprint CAP POL 2917/7343
pins: 1, 2

## TCJD107M020R0055
designator C?, comment 100uF
CAP TANT POLY 100UF 20V 2917; Part Number: TCJD107M020R0055; Manufacturer: AVX Corporation; TemperatureRange: -55C ~ 105C; Tolerance: 20%; Type: Polymer; Value: 100uF; PartId: 7007; Supplier 1: Digi-Key; Supplier Part Number 1: 478-8788-2-ND; ComponentLink1Description: Datasheet; ComponentLink1URL: http://datasheets.avx.com/TCJ.pdf; ComponentLink2Description: Digi-Key listing; ComponentLink2URL: http://digikey.com/product-detail/en/TCJD107M020R0055/478-8788-2-ND/4556150; Voltage: 20V; Price: 1.9557; Device Package: 2917 (7343 Metric)
footprint CAP POL 2917/7343
pins: 1, 2

## TCJD226M025R0100
designator C?, comment 22uF
CAP TANT POLY 22UF 25V 2917; Part Number: TCJD226M025R0100; Manufacturer: AVX Corporation; TemperatureRange: -55C ~ 105C; Tolerance: 20%; Type: Polymer; Value: 22uF; PartId: 7023; Supplier 1: Digi-Key; Supplier Part Number 1: 478-6634-2-ND; ComponentLink1Description: Datasheet; ComponentLink1URL: http://datasheets.avx.com/TCJ.pdf; ComponentLink2Description: Digi-Key listing; ComponentLink2URL: http://digikey.com/product-detail/en/TCJD226M025R0100/478-6634-2-ND/2676412; Voltage: 25V; Price: 2.4957; Device Package: 2917 (7343 Metric)
footprint CAP POL 2917/7343
pins: 1, 2

## TCJD226M035R0100
designator C?, comment 22uF
CAP TANT POLY 22UF 35V 2917; Part Number: TCJD226M035R0100; Manufacturer: AVX Corporation; TemperatureRange: -55C ~ 105C; Tolerance: 20%; Type: Polymer; Value: 22uF; PartId: 7011; Supplier 1: Digi-Key; Supplier Part Number 1: 478-6649-2-ND; ComponentLink1Description: Datasheet; ComponentLink1URL: http://datasheets.avx.com/TCJ.pdf; ComponentLink2Description: Digi-Key listing; ComponentLink2URL: http://digikey.com/product-detail/en/TCJD226M035R0100/478-6649-2-ND/2676427; Voltage: 35V; Price: 2.9533; Device Package: 2917 (7343 Metric)
footprint CAP POL 2917/7343
pins: 1, 2

## TCJD227M006R0035
designator C?, comment 220uF
CAP TANT POLY 220UF 6.3V 2917; Part Number: TCJD227M006R0035; Manufacturer: AVX Corporation; TemperatureRange: -55C ~ 105C; Tolerance: 20%; Type: Polymer; Value: 220uF; PartId: 7026; Supplier 1: Digi-Key; Supplier Part Number 1: 478-9441-2-ND; ComponentLink1Description: Datasheet; ComponentLink1URL: http://datasheets.avx.com/TCJ.pdf; ComponentLink2Description: Digi-Key listing; ComponentLink2URL: http://digikey.com/product-detail/en/TCJD227M006R0035/478-9441-2-ND/5001414; Voltage: 6.3V; Price: 0.8937; Device Package: 2917 (7343 Metric)
footprint CAP POL 2917/7343
pins: 1, 2

## TCJD336M035R0070
designator C?, comment 33uF
CAP TANT POLY 33UF 35V 2917; Part Number: TCJD336M035R0070; Manufacturer: AVX Corporation; TemperatureRange: -55C ~ 105C; Tolerance: 20%; Type: Polymer; Value: 33uF; PartId: 7021; Supplier 1: Digi-Key; Supplier Part Number 1: 478-6650-2-ND; ComponentLink1Description: Datasheet; ComponentLink1URL: http://datasheets.avx.com/TCJ.pdf; ComponentLink2Description: Digi-Key listing; ComponentLink2URL: http://digikey.com/product-detail/en/TCJD336M035R0070/478-6650-2-ND/2676428; Voltage: 35V; Price: 4.5783; Device Package: 2917 (7343 Metric)
footprint CAP POL 2917/7343
pins: 1, 2

## TCJD337M006R0040
designator C?, comment 330uF
CAP TANT POLY 330UF 6.3V 2917; Part Number: TCJD337M006R0040; Manufacturer: AVX Corporation; TemperatureRange: -55C ~ 105C; Tolerance: 20%; Type: Polymer; Value: 330uF; PartId: 7024; Supplier 1: Digi-Key; Supplier Part Number 1: 478-8794-2-ND; ComponentLink1Description: Datasheet; ComponentLink1URL: http://datasheets.avx.com/TCJ.pdf; ComponentLink2Description: Digi-Key listing; ComponentLink2URL: http://digikey.com/product-detail/en/TCJD337M006R0040/478-8794-2-ND/4556159; Voltage: 6.3V; Price: 1.1804; Device Package: 2917 (7343 Metric)
footprint CAP POL 2917/7343
pins: 1, 2

## TCJD476M025R0100
designator C?, comment 47uF
CAP TANT POLY 47UF 25V 2917; Part Number: TCJD476M025R0100; Manufacturer: AVX Corporation; TemperatureRange: -55C ~ 105C; Tolerance: 20%; Type: Polymer; Value: 47uF; PartId: 7016; Supplier 1: Digi-Key; Supplier Part Number 1: 478-6638-2-ND; ComponentLink1Description: Datasheet; ComponentLink1URL: http://datasheets.avx.com/TCJ.pdf; ComponentLink2Description: Digi-Key listing; ComponentLink2URL: http://digikey.com/product-detail/en/TCJD476M025R0100/478-6638-2-ND/2676416; Voltage: 25V; Price: 3.4538; Device Package: 2917 (7343 Metric)
footprint CAP POL 2917/7343
pins: 1, 2

## TCJD686M020R0055
designator C?, comment 68uF
CAP TANT POLY 68UF 20V 2917; Part Number: TCJD686M020R0055; Manufacturer: AVX Corporation; TemperatureRange: -55C ~ 105C; Tolerance: 20%; Type: Polymer; Value: 68uF; PartId: 7047; Supplier 1: Digi-Key; Supplier Part Number 1: 478-9457-2-ND; ComponentLink1Description: Datasheet; ComponentLink1URL: http://datasheets.avx.com/TCJ.pdf; ComponentLink2Description: Digi-Key listing; ComponentLink2URL: http://digikey.com/product-detail/en/TCJD686M020R0055/478-9457-2-ND/5001430; Voltage: 20V; Price: 1.3382; Device Package: 2917 (7343 Metric)
footprint CAP POL 2917/7343
pins: 1, 2

## TCJE107M025R0080
designator C?, comment 100uF
CAP TANT POLY 100UF 25V 2917; Part Number: TCJE107M025R0080; Manufacturer: AVX Corporation; TemperatureRange: -55C ~ 105C; Tolerance: 20%; Type: Polymer; Value: 100uF; PartId: 7013; Supplier 1: Digi-Key; Supplier Part Number 1: 478-9463-2-ND; ComponentLink1Description: Datasheet; ComponentLink1URL: http://datasheets.avx.com/TCJ.pdf; ComponentLink2Description: Digi-Key listing; ComponentLink2URL: http://digikey.com/product-detail/en/TCJE107M025R0080/478-9463-2-ND/5001436; Voltage: 25V; Price: 2.4746; Device Package: 2917 (7343 Metric)
footprint CAP POL 2917/7343
pins: 1, 2

## TCJE157M016R0040
designator C?, comment 150uF
CAP TANT POLY 150UF 16V 2917; Part Number: TCJE157M016R0040; Manufacturer: AVX Corporation; TemperatureRange: -55C ~ 105C; Tolerance: 20%; Type: Polymer; Value: 150uF; PartId: 7014; Supplier 1: Digi-Key; Supplier Part Number 1: 478-9465-2-ND; ComponentLink1Description: Datasheet; ComponentLink1URL: http://datasheets.avx.com/TCJ.pdf; ComponentLink2Description: Digi-Key listing; ComponentLink2URL: http://digikey.com/product-detail/en/TCJE157M016R0040/478-9465-2-ND/5001438; Voltage: 16V; Price: 2.73; Device Package: 2917 (7343 Metric)
footprint CAP POL 2917/7343
pins: 1, 2

## TCJE476M035R0055
designator C?, comment 47uF
CAP TANT POLY 47UF 35V 2917; Part Number: TCJE476M035R0055; Manufacturer: AVX Corporation; TemperatureRange: -55C ~ 105C; Tolerance: 20%; Type: Polymer; Value: 47uF; PartId: 7020; Supplier 1: Digi-Key; Supplier Part Number 1: 478-8798-2-ND; ComponentLink1Description: Datasheet; ComponentLink1URL: http://datasheets.avx.com/TCJ.pdf; ComponentLink2Description: Digi-Key listing; ComponentLink2URL: http://digikey.com/product-detail/en/TCJE476M035R0055/478-8798-2-ND/4556129; Voltage: 35V; Price: 4.0144; Device Package: 2917 (7343 Metric)
footprint CAP POL 2917/7343
pins: 1, 2

## TCJE686M025R0050
designator C?, comment 68uF
CAP TANT POLY 68UF 25V 2917; Part Number: TCJE686M025R0050; Manufacturer: AVX Corporation; TemperatureRange: -55C ~ 105C; Tolerance: 20%; Type: Polymer; Value: 68uF; PartId: 7019; Supplier 1: Digi-Key; Supplier Part Number 1: 478-9471-2-ND; ComponentLink1Description: Datasheet; ComponentLink1URL: http://datasheets.avx.com/TCJ.pdf; ComponentLink2Description: Digi-Key listing; ComponentLink2URL: http://digikey.com/product-detail/en/TCJE686M025R0050/478-9471-2-ND/5001444; Voltage: 25V; Price: 2.5249; Device Package: 2917 (7343 Metric)
footprint CAP POL 2917/7343
pins: 1, 2

## TCJX336M025R0070
designator C?, comment 33uF
CAP TANT POLY 33UF 20% 25V 2917; Part Number: TCJX336M025R0070; Manufacturer: AVX Corporation; TemperatureRange: -55C ~ 105C; Type: General Purpose; Value: 33uF; PartId: 7033; Supplier 1: Digi-Key; Supplier Part Number 1: 478-9581-2-ND; ComponentLink1Description: Datasheet; ComponentLink1URL: http://datasheets.avx.com/TCJ.pdf; ComponentLink2Description: Digi-Key listing; ComponentLink2URL: http://digikey.com/product-detail/en/TCJX336M025R0070/478-9581-2-ND/5323785; Tolerance: 20%; Voltage: 25V; Price: 2.5172; Device Package: 2917 (7343 Metric)
footprint CAP POL 2917/7343
pins: 1, 2

## TCJX477M006R0100
designator C?, comment 470uF
CAP TANT POLY 470UF 6.3V 2917; Part Number: TCJX477M006R0100; Manufacturer: AVX Corporation; TemperatureRange: -55C ~ 105C; Tolerance: 20%; Type: Polymer; Value: 470uF; PartId: 7012; Supplier 1: Digi-Key; Supplier Part Number 1: 478-9487-2-ND; ComponentLink1Description: Datasheet; ComponentLink1URL: http://datasheets.avx.com/TCJ.pdf; ComponentLink2Description: Digi-Key listing; ComponentLink2URL: http://digikey.com/product-detail/en/TCJX477M006R0100/478-9487-2-ND/5001460; Voltage: 6.3V; Price: 1.0749; Device Package: 2917 (7343 Metric)
footprint CAP POL 2917/7343
pins: 1, 2

## TCJY107M010R0045
designator C?, comment 100uF
CAP TANT POLY 100UF 10V 2917; Part Number: TCJY107M010R0045; Manufacturer: AVX Corporation; TemperatureRange: -55C ~ 105C; Tolerance: 20%; Type: Polymer; Value: 100uF; PartId: 7030; Supplier 1: Digi-Key; Supplier Part Number 1: 478-8800-2-ND; ComponentLink1Description: Datasheet; ComponentLink1URL: http://datasheets.avx.com/TCJ.pdf; ComponentLink2Description: Digi-Key listing; ComponentLink2URL: http://digikey.com/product-detail/en/TCJY107M010R0045/478-8800-2-ND/4556135; Voltage: 10V; Price: 1.1225; Device Package: 2917 (7343 Metric)
footprint CAP POL 2917/7343
pins: 1, 2

## TCJY107M016R0050
designator C?, comment 100uF
CAP TANT POLY 100UF 16V 2917; Part Number: TCJY107M016R0050; Manufacturer: AVX Corporation; TemperatureRange: -55C ~ 105C; Tolerance: 20%; Type: Polymer; Value: 100uF; PartId: 7018; Supplier 1: Digi-Key; Supplier Part Number 1: 478-9490-2-ND; ComponentLink1Description: Datasheet; ComponentLink1URL: http://datasheets.avx.com/TCJ.pdf; ComponentLink2Description: Digi-Key listing; ComponentLink2URL: http://digikey.com/product-detail/en/TCJY107M016R0050/478-9490-2-ND/5001463; Voltage: 16V; Price: 1.1548; Device Package: 2917 (7343 Metric)
footprint CAP POL 2917/7343
pins: 1, 2

## TCJY157M006R0040
designator C?, comment 150uF
CAP TANT POLY 150UF 6.3V 2917; Part Number: TCJY157M006R0040; Manufacturer: AVX Corporation; TemperatureRange: -55C ~ 105C; Tolerance: 20%; Type: Polymer; Value: 150uF; PartId: 7029; Supplier 1: Digi-Key; Supplier Part Number 1: 478-8801-2-ND; ComponentLink1Description: Datasheet; ComponentLink1URL: http://datasheets.avx.com/TCJ.pdf; ComponentLink2Description: Digi-Key listing; ComponentLink2URL: http://digikey.com/product-detail/en/TCJY157M006R0040/478-8801-2-ND/4556136; Voltage: 6.3V; Price: 1.0824; Device Package: 2917 (7343 Metric)
footprint CAP POL 2917/7343
pins: 1, 2

## TCJY157M010R0055
designator C?, comment 150uF
CAP TANT POLY 150UF 10V 2917; Part Number: TCJY157M010R0055; Manufacturer: AVX Corporation; TemperatureRange: -55C ~ 105C; Tolerance: 20%; Type: Polymer; Value: 150uF; PartId: 7025; Supplier 1: Digi-Key; Supplier Part Number 1: 478-9498-2-ND; ComponentLink1Description: Datasheet; ComponentLink1URL: http://datasheets.avx.com/TCJ.pdf; ComponentLink2Description: Digi-Key listing; ComponentLink2URL: http://digikey.com/product-detail/en/TCJY157M010R0055/478-9498-2-ND/5001471; Voltage: 10V; Price: 0.8606; Device Package: 2917 (7343 Metric)
footprint CAP POL 2917/7343
pins: 1, 2

## TCJY157M016R0050
designator C?, comment 150uF
CAP TANT POLY 150UF 20% 16V 2917; Part Number: TCJY157M016R0050; Manufacturer: AVX Corporation; TemperatureRange: -55C ~ 85C; Type: General Purpose; Value: 150uF; PartId: 7036; Supplier 1: Digi-Key; Supplier Part Number 1: 478-9587-2-ND; ComponentLink1Description: Datasheet; ComponentLink1URL: http://datasheets.avx.com/TCJ.pdf; ComponentLink2Description: Digi-Key listing; ComponentLink2URL: http://digikey.com/product-detail/en/TCJY157M016R0050/478-9587-2-ND/5323791; Tolerance: 20%; Voltage: 16V; Price: 1.0435; Device Package: 2917 (7343 Metric)
footprint CAP POL 2917/7343
pins: 1, 2

## TCJY227M010R0040
designator C?, comment 220uF
CAP TANT POLY 220UF 10V 2917; Part Number: TCJY227M010R0040; Manufacturer: AVX Corporation; TemperatureRange: -55C ~ 105C; Tolerance: 20%; Type: Polymer; Value: 220uF; PartId: 7034; Supplier 1: Digi-Key; Supplier Part Number 1: 478-9505-2-ND; ComponentLink1Description: Datasheet; ComponentLink1URL: http://datasheets.avx.com/TCJ.pdf; ComponentLink2Description: Digi-Key listing; ComponentLink2URL: http://digikey.com/product-detail/en/TCJY227M010R0040/478-9505-2-ND/5001477; Voltage: 10V; Price: 1.0096; Device Package: 2917 (7343 Metric)
footprint CAP POL 2917/7343
pins: 1, 2

## TCJY336M016R0070
designator C?, comment 33uF
CAP TANT POLY 33UF 16V 2917; Part Number: TCJY336M016R0070; Manufacturer: AVX Corporation; TemperatureRange: -55C ~ 105C; Tolerance: 20%; Type: Polymer; Value: 33uF; PartId: 7022; Supplier 1: Digi-Key; Supplier Part Number 1: 478-6944-2-ND; ComponentLink1Description: Datasheet; ComponentLink1URL: http://datasheets.avx.com/TCJ.pdf; ComponentLink2Description: Digi-Key listing; ComponentLink2URL: http://digikey.com/product-detail/en/TCJY336M016R0070/478-6944-2-ND/2832814; Voltage: 16V; Price: 1.998; Device Package: 2917 (7343 Metric)
footprint CAP POL 2917/7343
pins: 1, 2

## TCJY336M025R0060
designator C?, comment 33uF
CAP TANT POLY 33UF 25V 2917; Part Number: TCJY336M025R0060; Manufacturer: AVX Corporation; TemperatureRange: -55C ~ 105C; Tolerance: 20%; Type: Polymer; Value: 33uF; PartId: 7017; Supplier 1: Digi-Key; Supplier Part Number 1: 478-8807-2-ND; ComponentLink1Description: Datasheet; ComponentLink1URL: http://datasheets.avx.com/TCJ.pdf; ComponentLink2Description: Digi-Key listing; ComponentLink2URL: http://digikey.com/product-detail/en/TCJY336M025R0060/478-8807-2-ND/4556152; Voltage: 25V; Price: 0.8257; Device Package: 2917 (7343 Metric)
footprint CAP POL 2917/7343
pins: 1, 2

## TCJY476M016R0045
designator C?, comment 47uF
CAP TANT POLY 47UF 16V 2917; Part Number: TCJY476M016R0045; Manufacturer: AVX Corporation; TemperatureRange: -55C ~ 105C; Tolerance: 20%; Type: Polymer; Value: 47uF; PartId: 7028; Supplier 1: Digi-Key; Supplier Part Number 1: 478-8811-2-ND; ComponentLink1Description: Datasheet; ComponentLink1URL: http://datasheets.avx.com/TCJ.pdf; ComponentLink2Description: Digi-Key listing; ComponentLink2URL: http://digikey.com/product-detail/en/TCJY476M016R0045/478-8811-2-ND/4556139; Voltage: 16V; Price: 1.0295; Device Package: 2917 (7343 Metric)
footprint CAP POL 2917/7343
pins: 1, 2

## TCJY476M020R0070
designator C?, comment 47uF
CAP TANT POLY 47UF 20V 2917; Part Number: TCJY476M020R0070; Manufacturer: AVX Corporation; TemperatureRange: -55C ~ 105C; Tolerance: 20%; Type: Polymer; Value: 47uF; PartId: 7015; Supplier 1: Digi-Key; Supplier Part Number 1: 478-6947-2-ND; ComponentLink1Description: Datasheet; ComponentLink1URL: http://datasheets.avx.com/TCJ.pdf; ComponentLink2Description: Digi-Key listing; ComponentLink2URL: http://digikey.com/product-detail/en/TCJY476M020R0070/478-6947-2-ND/2832827; Voltage: 20V; Price: 0.9099; Device Package: 2917 (7343 Metric)
footprint CAP POL 2917/7343
pins: 1, 2

## TCJY686M010R0055
designator C?, comment 68uF
CAP TANT POLY 68UF 10V 2917; Part Number: TCJY686M010R0055; Manufacturer: AVX Corporation; TemperatureRange: -55C ~ 105C; Tolerance: 20%; Type: Polymer; Value: 68uF; PartId: 7027; Supplier 1: Digi-Key; Supplier Part Number 1: 478-8815-2-ND; ComponentLink1Description: Datasheet; ComponentLink1URL: http://datasheets.avx.com/TCJ.pdf; ComponentLink2Description: Digi-Key listing; ComponentLink2URL: http://digikey.com/product-detail/en/TCJY686M010R0055/478-8815-2-ND/4556151; Voltage: 10V; Price: 0.9025; Device Package: 2917 (7343 Metric)
footprint CAP POL 2917/7343
pins: 1, 2

## TCJY686M016R0050
designator C?, comment 68uF
CAP TANT POLY 68UF 16V 2917; Part Number: TCJY686M016R0050; Manufacturer: AVX Corporation; TemperatureRange: -55C ~ 105C; Tolerance: 20%; Type: Polymer; Value: 68uF; PartId: 7035; Supplier 1: Digi-Key; Supplier Part Number 1: 478-9518-2-ND; ComponentLink1Description: Datasheet; ComponentLink1URL: http://datasheets.avx.com/TCJ.pdf; ComponentLink2Description: Digi-Key listing; ComponentLink2URL: http://digikey.com/product-detail/en/TCJY686M016R0050/478-9518-2-ND/5001490; Voltage: 16V; Price: 0.9671; Device Package: 2917 (7343 Metric)
footprint CAP POL 2917/7343
pins: 1, 2

## TCME337M010R0015
designator C?, comment 330uF
CAP TANT POLY 330UF 10V 2917; Part Number: TCME337M010R0015; Manufacturer: AVX Corporation; TemperatureRange: -55C ~ 105C; Tolerance: 20%; Type: Polymer; Value: 330uF; PartId: 7038; Supplier 1: Digi-Key; Supplier Part Number 1: 478-9520-2-ND; ComponentLink1Description: Datasheet; ComponentLink1URL: http://datasheets.avx.com/TCM.pdf; ComponentLink2Description: Digi-Key listing; ComponentLink2URL: http://digikey.com/product-detail/en/TCME337M010R0015/478-9520-2-ND/5001492; Voltage: 10V; Price: 4.1545; Device Package: 2917 (7343 Metric)
footprint CAP POL 2917/7343
pins: 1, 2

## TCME687M006R0012
designator C?, comment 680uF
CAP TANT POLY 680UF 6.3V 2917; Part Number: TCME687M006R0012; Manufacturer: AVX Corporation; TemperatureRange: -55C ~ 105C; Tolerance: 20%; Type: Polymer; Value: 680uF; PartId: 7037; Supplier 1: Digi-Key; Supplier Part Number 1: 478-8816-2-ND; ComponentLink1Description: Datasheet; ComponentLink1URL: http://datasheets.avx.com/TCM.pdf; ComponentLink2Description: Digi-Key listing; ComponentLink2URL: http://digikey.com/product-detail/en/TCME687M006R0012/478-8816-2-ND/4556130; Voltage: 6.3V; Price: 3.9547; Device Package: 2917 (7343 Metric)
footprint CAP POL 2917/7343
pins: 1, 2

## TCNX476M025R0100
designator C?, comment 47uF
CAP TANT POLY 47UF 20% 25V SMD; Part Number: TCNX476M025R0100; Manufacturer: AVX Corporation; TemperatureRange: -55C ~ 105C; Type: Polymer; Value: 47uF; PartId: 7031; Supplier 1: Digi-Key; Supplier Part Number 1: 478-9598-2-ND; ComponentLink1Description: Datasheet; ComponentLink1URL: http://datasheets.avx.com/J-Cap_Series.pdf; ComponentLink2Description: Digi-Key listing; ComponentLink2URL: http://digikey.com/product-detail/en/TCNX476M025R0100/478-9598-2-ND/5323802; Tolerance: 20%; Voltage: 25V; Price: 1.3052; Device Package: 2917 (7343 Metric)
footprint CAP POL 2917/7343
pins: 1, 2

## TCRD476M016R0070J
designator C?, comment 47uF
CAP TANT POLY 47UF 16V 7343-31; Part Number: TCRD476M016R0070J; Manufacturer: AVX Corporation; TemperatureRange: -55C ~ 105C; Tolerance: 20%; Type: General Purpose; Value: 47uF; PartId: 7039; Supplier 1: Digi-Key; Supplier Part Number 1: 478-9555-2-ND; ComponentLink1Description: Datasheet; ComponentLink1URL: http://datasheets.avx.com/TCR.pdf; ComponentLink2Description: Digi-Key listing; ComponentLink2URL: http://digikey.com/product-detail/en/TCRD476M016R0070J/478-9555-2-ND/5271134; Voltage: 16V; Price: 8.6382; Device Package: 2917 (7343 Metric)
footprint CAP POL 2917/7343
pins: 1, 2

## TCRD686M010R0070J
designator C?, comment 68uF
CAP TANT POLY 68UF 10V 7343-31; Part Number: TCRD686M010R0070J; Manufacturer: AVX Corporation; TemperatureRange: -55C ~ 105C; Tolerance: 20%; Type: General Purpose; Value: 68uF; PartId: 7040; Supplier 1: Digi-Key; Supplier Part Number 1: 478-9554-2-ND; ComponentLink1Description: Datasheet; ComponentLink1URL: http://datasheets.avx.com/TCR.pdf; ComponentLink2Description: Digi-Key listing; ComponentLink2URL: http://digikey.com/product-detail/en/TCRD686M010R0070J/478-9554-2-ND/5271135; Voltage: 10V; Price: 8.6382; Device Package: 2917 (7343 Metric)
footprint CAP POL 2917/7343
pins: 1, 2